# Altium schematic symbol library charger.SchLib: 6 symbols
Pins are listed as number, name and electrical type; pins without a type are passive.

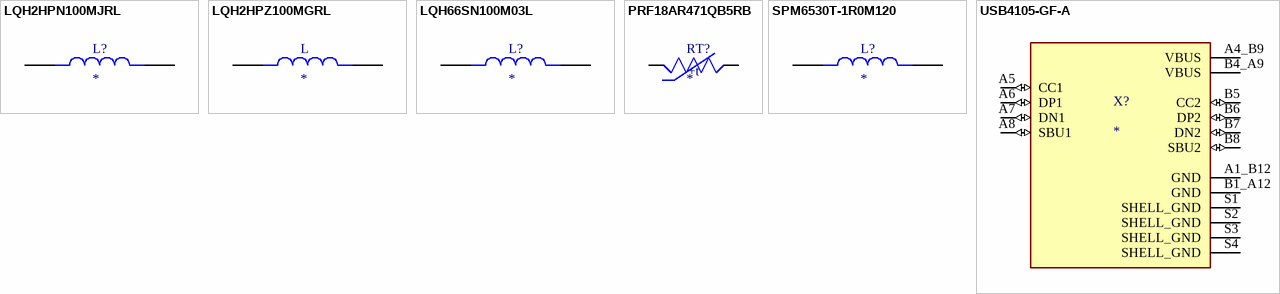
[diagram p0: symbols LQH2HPN100MJRL to USB4105-GF-A]

## LQH2HPN100MJRL
designator L?
10ÂµH Shielded Wirewound Inductor 490mA 456mOhm Max 1008 (2520 Metric); MP: LQH2HPN100MJRL; Package: None; Price: None; Value: *; Availability: Unavailable
footprint IND_LQH2HPN100MJRL
pins: 1, 2

## LQH2HPZ100MGRL
designator L
Inductor with Inductance: 10uH Tol. +/-20%, Package: 1008 _2520_; MF: Murata; MP: LQH2HPZ100MGRL; Value: *; Package: NONSTANDARD; SnapEDA_Link: https://www.snapeda.com/parts/LQH2HPZ100MGRL/Murata/view-part/1498264/?ref=snap
footprint IND_LQH2HPZ100MGRL
pins: 1, 2

## LQH66SN100M03L
designator L?
Ð˜Ð½Ð´ÑƒÐºÑ‚Ð¾Ñ€ Ñ Ð¸Ð½Ð´ÑƒÐºÑ‚Ð¸Ð²Ð½Ð¾ÑÑ‚ÑŒÑŽ: 10uH Tol. +/- 20%, Ð£Ð¿Ð°ÐºÐ¾Ð²ÐºÐ°: 2525 (6363); MP: LQH66SN100M03L; MF: Murata; Value: *; Check_prices: https://www.snapeda.com/parts/LQH66SN100M03L/Murata/view-part/4550275/?ref=eda; Availability: Good; Price: None; Package: NONSTANDARD; Purchase-URL: https://pricing.snapeda.com/search/part/LQH66SN100M03L/?ref=eda; SnapEDA_Link: https://www.snapeda.com/parts/LQH66SN100M03L/Murata/view-part/4550275/?ref=snap
footprint IND_LQH66SN100M03L
pins: 1, 2

## PRF18AR471QB5RB
designator RT?
MP: PRF18AR471QB5RB; Package: None; Price: None; Value: *; Availability: Unavailable
footprint THRMC1608X95N
pins: 1, 2
text: +t

## SPM6530T-1R0M120
designator L?
1.0µH Shielded Wirewound Inductor 1.0uH 0.0071ohms 7.1x6.5x3mm; MP: LQH2HPN100MJRL; Package: None; Price: None; Value: *; Availability: Unavailable
footprint SPM6530T-1R0M120
pins: 1, 2

## USB4105-GF-A
designator X?
USB-C (USB TYPE-C) USB 2.0 Receptacle Connector 24 (16+8 Dummy) Position Surface Mount, Right Angle; Through Hole; MP: USB4105-GF-A; MF: GCT; Price: None; Value: *; Package: None; Purchase-URL: https://pricing.snapeda.com/search/part/USB4105-GF-A/?ref=eda; SnapEDA_Link: https://www.snapeda.com/parts/USB4105-GF-A/Global%20Connector%20Technology/view-part/4423780/?ref=snap; Check_prices: https://www.snapeda.com/parts/USB4105-GF-A/Global%20Connector%20Technology/view-part/4423780/?ref=eda; Availability: Warning
footprint GCT_USB4105-GF-A
pins: A1_B12 GND (power), A4_B9 VBUS (power), A5 CC1 (io), A6 DP1 (io), A7 DN1 (io), A8 SBU1 (io), B1_A12 GND (power), B4_A9 VBUS (power), B5 CC2 (io), B6 DP2 (io), B7 DN2 (io), B8 SBU2 (io), S1 SHELL_GND (power), S2 SHELL_GND (power), S3 SHELL_GND (power), S4 SHELL_GND (power)